# EAGLE library part SD-READER (library CAN-D)
DM1 Series 12 (9+3) Position 2.90 mm Pitch SMT Right Angle PC Card Connector
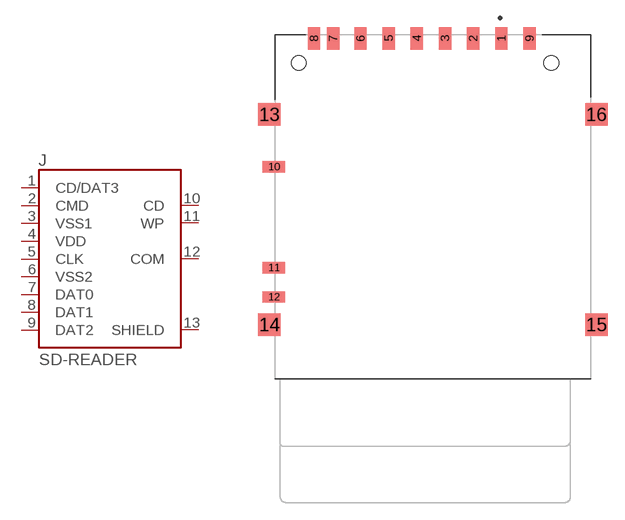
[diagram p0: symbol with the pads of DM1AA-SF-PEJ(21); footprint DM1AA-SF-PEJ(21)]

Designator prefix J

## SD-READER (DESCRIPTION: DM1 Series 12 _9+3_ Position 2.90 mm Pitch SMT Right Angle PC Card Connector; DIGI-KEY_PART_NUMBER: HR845CT-ND; DIGI-KEY_PURCHASE_URL: https://www.digikey.ca/product-detail/en/hirose-electric-co-ltd/DM1AA-SF-PEJ_21_/HR845CT-ND/559985?utm_source=snapeda&utm_medium=aggregator&utm_campaign=symbol; MF: Hirose; MP: DM1AA-SF-PEJ_21_; PACKAGE: None)  [DM1AA-SF-PEJ(21)]
1  CD/DAT3
2  CMD
3  VSS1  pwr
4  VDD  pwr
5  CLK
6  VSS2  pwr
7  DAT0
8  DAT1
9  DAT2
10  CD  pas
11  WP  pas
12  COM  pas
13  SHIELD  pas

## Footprint DM1AA-SF-PEJ(21) (pad centres in mm)
smd 1.1 x 2: 1 6.875,14.95; 2 4.375,14.95; 3 1.875,14.95; 4 -0.625,14.95; 5 -3.125,14.95; 6 -5.625,14.95; 7 -8.05,14.95; 8 -9.75,14.95; 9 9.375,14.95
smd 2 x 1: 10 -13.3,3.55; 11 -13.3,-5.4; 12 -13.3,-8
smd 2 x 2: 13 -13.7,8.2; 14 -13.7,-10.45; 15 15.3,-10.45; 16 15.3,8.2
hole 1.3 at -11.1,12.75
hole 1.3 at 11.3,12.75